# Altium footprint library DFN1006-2.PcbLib: 1 footprints
Each footprint in its own frame and in the unit in brackets; x right, y up, seen from the top. Pads: shape width x height; smd on the part's side, far side on the other; paste and mask are expansions set on the pad; w line width, h text height; cw(c..) or ccw(c..) is an arc to the next point about the centre after c.
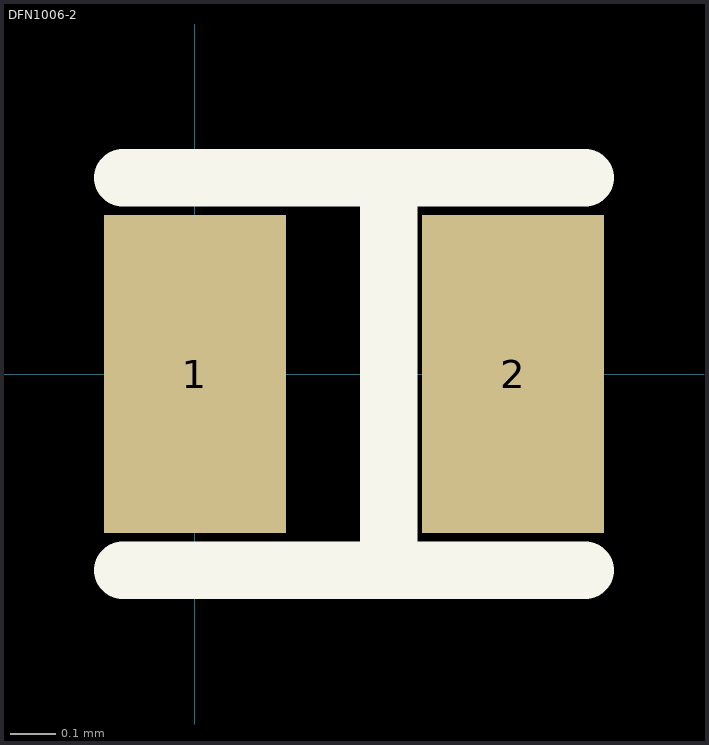
[diagram p0: the footprint, top view; thin cyan lines are the x and y axes]

## DFN1006-2 [mm] "Fast Switching Diode"
height 55
pads (2):
  rect 0.4x0.7 smd: 1(0,0) 2(0.7,0)
TopOverlay:
  lines w0.127: -0.158,-0.432 0.858,-0.432 ; -0.158,0.432 0.858,0.432 ; 0.426,-0.432 0.426,0.432
3D body: height 0.53, standoff 0, extent -0.222,-0.495 0.921,0.495